# Altium footprint library PLT10HH101150PNL.PcbLib: 1 footprints
Each footprint in its own frame and in the unit in brackets; x right, y up, seen from the top. Pads: shape width x height; smd on the part's side, far side on the other; paste and mask are expansions set on the pad; w line width, h text height; cw(c..) or ccw(c..) is an arc to the next point about the centre after c.
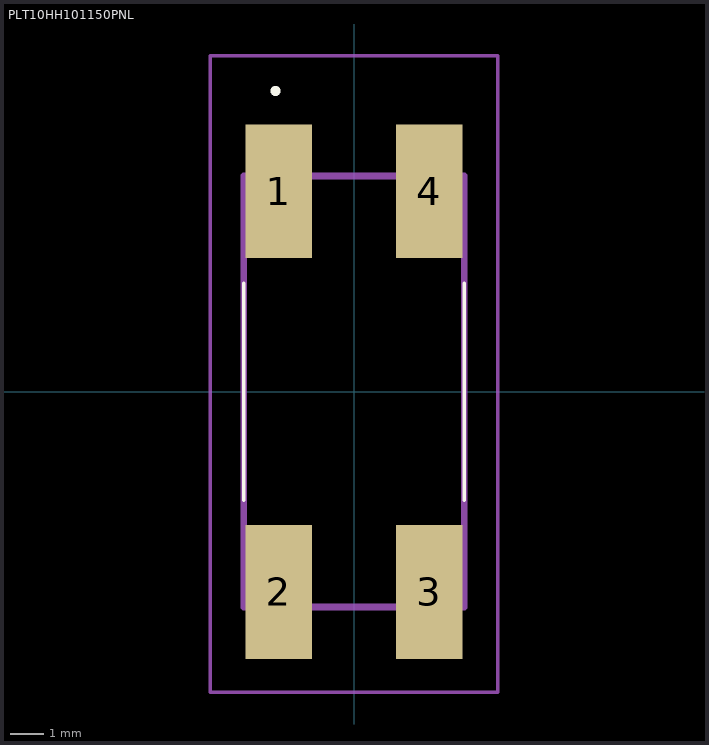
[diagram p0: the footprint, top view; thin cyan lines are the x and y axes]

## PLT10HH101150PNL [mm]
pads (4):
  rect 2x4 smd: 1(-2.25,6) 2(-2.25,-6) 3(2.25,-6) 4(2.25,6)
Top Overlay:
  lines w0.1: -3.3,-3.25 -3.3,3.25 ; -3.3,-3.25 -3.3,-3.25 ; -3.3,-3.25 -3.3,3.25 ; -3.3,3.25 -3.3,3.25 ; 3.3,-3.25 3.3,3.25 ; 3.3,-3.25 3.3,-3.25 ; 3.3,-3.25 3.3,3.25 ; 3.3,3.25 3.3,3.25
  lines w0.2: -2.4,9 -2.4,9 ; -2.4,9 ccw(c-2.35,9) -2.3,9 ; -2.4,9 cw(c-2.35,9) -2.3,9 ; -2.4,9 -2.4,9 ; -2.4,9 ccw(c-2.35,9) -2.3,9 ; -2.3,9 -2.3,9
Mechanical 15:
  lines w0.2: -3.3,-6.45 3.3,-6.45 3.3,6.45 -3.3,6.45 -3.3,-6.45
Mechanical 20:
  lines w0.1: -4.3,-9 4.3,-9 4.3,10.05 -4.3,10.05 -4.3,-9